# EAGLE library part LM2576S-3.3_NOPB (library LM2576S-3.3_NOPB)
SIMPLE SWITCHER® 40V, 3A Low Component Count Step-Down Regulator Source: Datasheet <http://www.ti.com/lit/ds/symlink/lm2576.pdf>
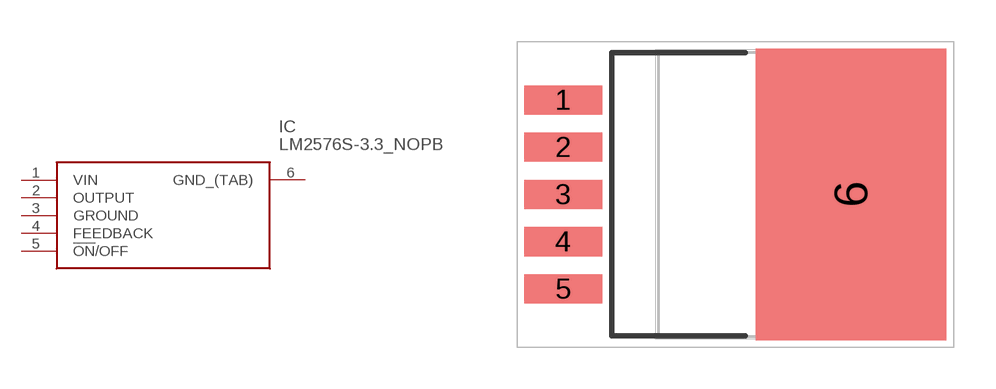
[diagram p0: symbol with the pads of TO170P1435X465-6N; footprint TO170P1435X465-6N]

Designator prefix IC

## LM2576S-3.3_NOPB (Description: SIMPLE SWITCHER&#174; 40V, 3A Low Component Count Step-Down Regulator; Height: 4.65mm; Manufacturer_Name: Texas Instruments; Manufacturer_Part_Number: LM2576S-3.3/NOPB; Mouser_Part_Number: 926-LM2576S-3.3/NOPB; Mouser_Price-Stock: https://www.mouser.co.uk/ProductDetail/Texas-Instruments/LM2576S-3.3-NOPB?qs=X1J7HmVL2ZHgUfnXFulfHg%3D%3D)  [TO170P1435X465-6N]
1  VIN  in
2  OUTPUT  out
3  GROUND
4  FEEDBACK
5  !ON!/OFF
6  GND_(TAB)  pwr

## Footprint TO170P1435X465-6N (pad centres in mm)
KTT0005B
smd 2.8 x 1.05: 1 -6.2,3.4; 2 -6.2,1.7; 3 -6.2,0; 4 -6.2,-1.7; 5 -6.2,-3.4
smd 6.85 x 10.5: 6 4.15,0